# Altium footprint library JMP1X2-M90_2.54.PcbLib: 1 footprints
Each footprint in its own frame and in the unit in brackets; x right, y up, seen from the top. Pads: shape width x height; smd on the part's side, far side on the other; paste and mask are expansions set on the pad; w line width, h text height; cw(c..) or ccw(c..) is an arc to the next point about the centre after c.
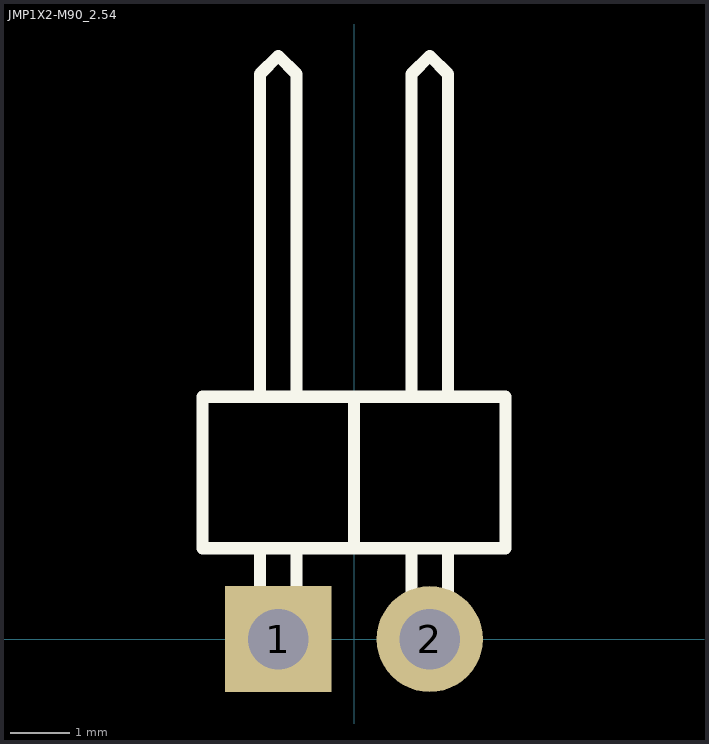
[diagram p0: the footprint, top view; thin cyan lines are the x and y axes]

## JMP1X2-M90_2.54 [mil]
pads (2):
  rect 70x70 hole 40: 1(-50,0)
  round 70 hole 40: 2(50,0)
Top Overlay:
  lines w8: -62,60 -62,0 -38,0 -38,60 ; -62,160 -62,373 -50,385 -38,373 -38,160 ; 0,60 0,160 ; 38,60 38,0 62,0 62,60 ; 38,160 38,373 50,385 62,373 62,160 ; -100,60 100,60 100,160 -100,160 -100,60